# EAGLE library part RDOTR1 (library radiotubes)
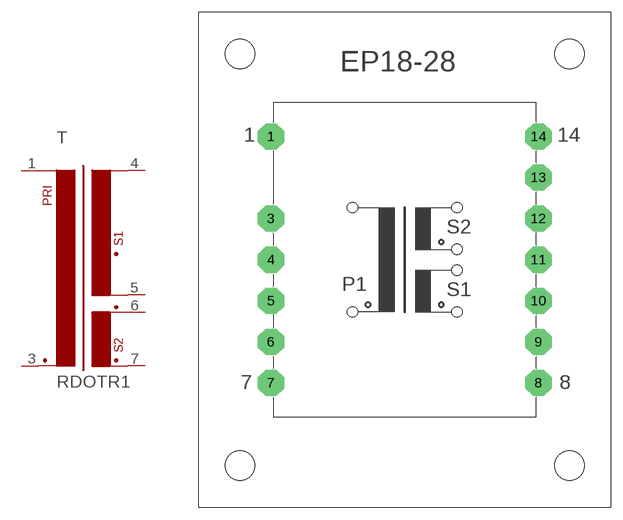
[diagram p123: symbol with the pads of RDOTRAFO; footprint RDOTRAFO]

Designator prefix T

## RDOTR1  [RDOTRAFO]
1  L  pas
3  N  pas
4  A1  pas
5  A2  pas
6  H  pas
7  H'  pas

## Footprint RDOTRAFO (pad centres in mm)
drill 1.118 pad 3.175 octagon: 1 -16.256,14.986; 3 -16.256,5.004; 4 -16.256,0; 5 -16.256,-5.004; 6 -16.256,-10.008; 7 -16.256,-14.986; 8 16.256,-14.986; 9 16.256,-10.008; 10 16.256,-5.004; 11 16.256,0; 12 16.256,5.004; 13 16.256,10.008; 14 16.256,14.986